# Altium integrated library Resistors.IntLib: 7 symbols
Pins are listed as number, name and electrical type; pins without a type are passive.

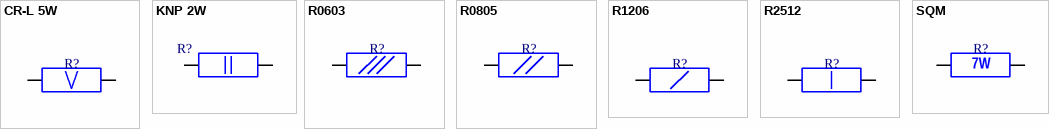
[diagram p0: symbols CR-L 5W to SQM]

## CR-L 5W
designator R?
ComponentDescription: CR-L 5W  ±5%; Accuracy: 5%
footprint R5W-200a Vre
pins: 1, 2

## KNP 2W
designator R?
ComponentDescription: KNP2W  ±5%; Accuracy: 5%
footprint KNP 2W 5.5x16
pins: 1, 2

## R0603
designator R?
ComponentDescription: SMD0603  ±5%; Accuracy: 5%
footprint RES0603 (Chip Capacitor, 2-Leads, Body 1,60x0,83mm, IPC Medium Density)
pins: 1, 2

## R0805
designator R?
ComponentDescription: SMD0805  ±5%; Accuracy: 5%
footprint RES0805 (Chip Resistor, 2-Leads, Body 2,00x1,25mm, IPC Medium Density)
pins: 1, 2

## R1206
designator R?
ComponentDescription: SMD1206  ±5%; Accuracy: 5%
footprint RES1206 (Chip Resistor, 2-Leads, Body 3,20x1,60mm, IPC Medium Density)
pins: 1, 2

## R2512
designator R?
ComponentDescription: SMD2512  ±5%; Accuracy: 5%
footprint RES2512
pins: 1, 2

## SQM
designator R?
ComponentDescription: SQM  ±5%; Accuracy: 5%
footprint SQM 5W
pins: 1, 2
text: 7W